# Altium schematic symbol library Blocks.SchLib: 9 symbols
Pins are listed as number, name and electrical type; pins without a type are passive.

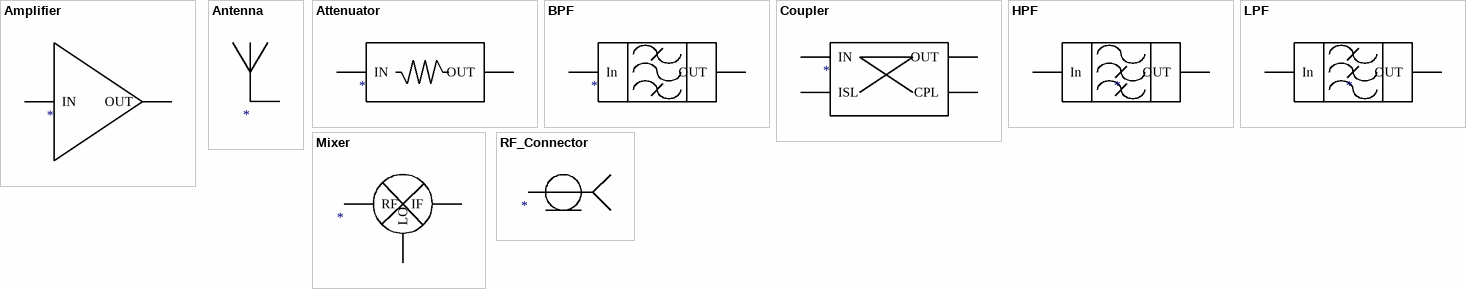
[diagram p0: symbols Amplifier to RF_Connector]

## Amplifier
designator *
pins: In IN, In OUT

## Antenna
designator *
pins: In

## Attenuator
designator *
pins: In IN, In OUT

## BPF
designator *
pins: In, In OUT

## Coupler
designator *
pins: In IN, In OUT, In CPL, In ISL

## HPF
designator *
pins: In, In OUT

## LPF
designator *
pins: In, In OUT

## Mixer
designator *
pins: In RF, In IF, In LO

## RF_Connector
designator *
pins: In